# Altium footprint library chipcard-siemens.PCBLIB: 4 footprints
Each footprint in its own frame and in the unit in brackets; x right, y up, seen from the top. Pads: shape width x height; smd on the part's side, far side on the other; paste and mask are expansions set on the pad; w line width, h text height; cw(c..) or ccw(c..) is an arc to the next point about the centre after c.
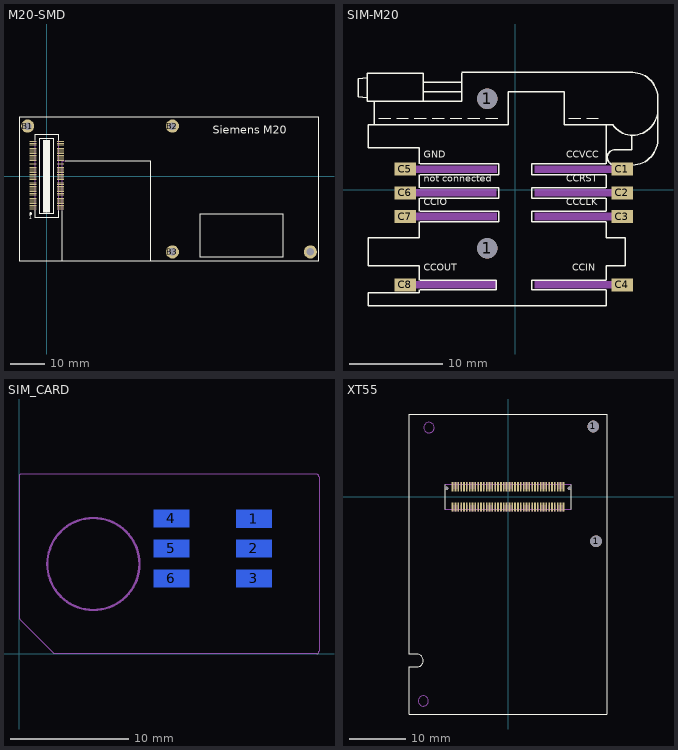
[diagram p0: the footprints below, top view; thin cyan lines are the x and y axes]

## M20-SMD [mil]
pads (84):
  rect 79x10 smd: 1(-157.48,-374.02) 2(-157.48,-354.33) 3(-157.48,-334.65) 4(-157.48,-314.96) 5(-157.48,-295.28) 6(-157.48,-275.59) 7(-157.48,-255.91) 8(-157.48,-236.22) 9(-157.48,-216.54) 10(-157.48,-196.85) 11(-157.48,-177.17) 12(-157.48,-157.48) 13(-157.48,-137.8) 14(-157.48,-118.11) 15(-157.48,-98.43) 16(-157.48,-78.74) 17(-157.48,-59.06) 18(-157.48,-39.37) 19(-157.48,-19.69) 20(-157.48,0) 21(-157.48,19.69) 22(-157.48,39.37) 23(-157.48,59.06) 24(-157.48,78.74) 25(-157.48,98.43) 26(-157.48,118.11) 27(-157.48,137.8) 28(-157.48,157.48) 29(-157.48,177.17) 30(-157.48,196.85) 31(-157.48,216.54) 32(-157.48,236.22) 33(-157.48,255.91) 34(-157.48,275.59) 35(-157.48,295.28) 36(-157.48,314.96) 37(-157.48,334.65) 38(-157.48,354.33) 39(-157.48,374.02) 40(-157.48,393.7) 41(157.48,393.7) 42(157.48,374.02) 43(157.48,354.33) 44(157.48,334.65) 45(157.48,314.96) 46(157.48,295.28) 47(157.48,275.59) 48(157.48,255.91) 49(157.48,236.22) 50(157.48,216.54) 51(157.48,196.85) 52(157.48,177.17) 53(157.48,157.48) 54(157.48,137.8) 55(157.48,118.11) 56(157.48,98.43) 57(157.48,78.74) 58(157.48,59.06) 59(157.48,39.37) 60(157.48,19.69) 61(157.48,0) 62(157.48,-19.69) 63(157.48,-39.37) 64(157.48,-59.06) 65(157.48,-78.74) 66(157.48,-98.43) 67(157.48,-118.11) 68(157.48,-137.8) 69(157.48,-157.48) 70(157.48,-177.17) 71(157.48,-196.85) 72(157.48,-216.54) 73(157.48,-236.22) 74(157.48,-255.91) 75(157.48,-275.59) 76(157.48,-295.28) 77(157.48,-314.96) 78(157.48,-334.65) 79(157.48,-354.33) 80(157.48,-374.02)
  round 150 hole 86: B1(-216.54,570.87) B2(1437.01,570.87) B3(1437.01,-866.14) PB4(3011.81,-866.14)
Top Overlay:
  circle w12: c-182.09,-428.15 r9.85
  rectangle: -39.37,-413.39 39.37,413.39
  lines w6: -137.8,-390 -137.8,-472.44 137.8,-472.44 137.8,-395 ; -137.8,410 -137.8,472.44 137.8,472.44 137.8,410 ; 177.17,-395 177.17,-964.57 ; 215,177.17 1181.1,177.17 1181.1,-964.57 ; 177.17,-964.57 -314.96,-964.57 -314.96,669.29 3110.24,669.29 3110.24,-964.57 1181.1,-964.57 ; 177.17,-964.57 1181.1,-964.57 ; -78.74,-433.07 78.74,-433.07 78.74,433.07 -78.74,433.07 -78.74,-433.07 ; 1751.97,-925.2 1751.97,-433.07 2696.85,-433.07 2696.85,-925.2 1751.97,-925.2
  text "Siemens M20" at 1900,450 h155
  text "1" at -201.77,-511.81 h77.5
Mechanical 16:
  lines w6: -137.8,-390 -137.8,410 ; 137.8,-395 137.8,410 ; 177.17,-395 177.17,177.17 215,177.17

## SIM-M20 [mil]
pads (10):
  round 86 hole 86: 1(-118.27,-246.06) 1(-118.27,383.86)
  rect 90x55 smd: C1(450,88) C2(450,-12) C3(450,-112) C4(450,-400) C5(-464,88) C6(-464,-12) C7(-464,-112) C8(-464,-400)
Top Overlay:
  lines w2: -575,302.76 -525,302.76 ; -500,302.76 -450,302.76 ; -425,302.76 -375,302.76 ; -350,302.76 -300,302.76 ; -275,302.76 -225,302.76 ; -200,302.76 -150,302.76 ; -125,302.76 -75,302.76 ; 225,302.76 275,302.76 ; 300,302.76 350,302.76
  lines w6: -403.7,-420 -403.7,-433.07 -620.24,-433.07 -620.24,-487.13 383.7,-487.13 383.7,-420 ; -403.7,-380 -403.7,-320.28 -620.24,-320.28 -620.24,-202.17 -403.7,-202.17 -403.7,-135 ; -403.7,-90 -403.7,-35 ; -403.7,10 -403.7,65 ; -403.7,110 -403.7,177.17 -620.24,177.17 -620.24,275.59 -594.24,275.59 ; -400,-420 -80,-420 -80,-380 -400,-380 ; -400,-135 -70,-135 -70,-90 -400,-90 ; -400,-35 -70,-35 -70,10 -400,10 ; -400,65 -70,65 -70,110 -400,110 ; -226.54,492.13 -226.54,452.76 ; -225,495 495,495 cw(c492.5,387.5) 600,390 600,335 ; 380,-420 70,-420 70,-380 380,-380 ; 380,-135 70,-135 70,-90 380,-90 ; 380,-35 70,-35 70,10 380,10 ; 380,65 70,65 70,110 380,110 ; 383.7,-380 383.7,-320.28 462.44,-320.28 462.44,-202.17 383.7,-202.17 383.7,-135 ; 383.7,-90 383.7,-35 ; 383.7,10 383.7,65 ; 383.7,110 383.7,275.59 ; 410,275 ccw(c496.18,335) 495,230 ccw(c492.5,337.5) 600,335 ; 410,275.59 383.7,275.59 ; 489.76,230 489.76,170 ; 490,170 489.76,170 ; -623.35,388.39 -662.72,393.39 -662.72,467.76 -623.35,472.76 ; -623.35,388.39 -623.35,374.02 -594.24,374.02 ; -623.35,388.39 -623.35,472.76 ; -623.35,472.76 -623.35,492.13 -387.13,492.13 -387.13,452.76 ; -594.24,275.59 -29.69,275.59 -29.69,413.39 206.54,413.39 206.54,275.59 383.7,275.59 ; -594.24,275.59 -594.24,374.02 ; -594.24,374.02 -387.13,374.02 ; -387.13,374.02 -226.54,374.02 -226.54,413.39 ; -387.13,374.02 -387.13,413.39 ; -387.13,413.39 -226.54,413.39 ; -387.13,413.39 -387.13,452.76 ; -387.13,452.76 -226.54,452.76 ; -226.54,413.39 -226.54,452.76 ; 489.76,170 420,170 ccw(c420,137.5) 420,105 495,105 ccw(c492.5,212.5) 600,210 600,335
  text "GND" at -385,125 h49.6
  text "not connected" at -385,25 h49.6
  text "CCIO" at -385,-75 h49.6
  text "CCOUT" at -385,-350 h49.6
  text "CCIN" at 240,-350 h49.6
  text "CCCLK" at 215,-75 h49.6
  text "CCRST" at 215,25 h49.6
  text "CCVCC" at 215,125 h49.6
Mechanical 16:
  rectangle: -490,-28 -79,4
  rectangle: -490,72 -78,104
  rectangle: -490,-128 -78,-96
  rectangle: -490,-416 -78,-384
  rectangle: 80,72 478,104
  rectangle: 80,-28 478,4
  rectangle: 80,-128 478,-96
  rectangle: 80,-416 478,-384

## SIM_CARD [mil]
pads (6):
  rect 118.11x59.06 smd far side: 1(783,450) 2(783,351) 3(783,251) 4(508,451) 5(508,351) 6(508,251)
Mechanical 1:
  circle w7.87: c248.03,299.21 r153.54
  lines w0: 0,122.05 0,590.55 cw(c7.87,590.55) 7.87,598.42 ; 3.94,114.17 118.11,0 992.13,0 ccw(c992.12,7.86) 999.98,7.87 1000,590.55 ccw(c992.12,590.55) 992.13,598.43 7.87,598.43
  lines w0.09: 0,122.05 ccw(c9.84,122.05) 3.94,114.17

## XT55 [mm]
pads (84):
  round 0.6 hole 0.6: 1(-10.8,1.5) 1(10.8,1.5)
  rect 0.3x1.6 smd: 1(-9.75,1.8) 2(-9.25,1.8) 3(-8.75,1.8) 4(-8.25,1.8) 5(-7.75,1.8) 6(-7.25,1.8) 7(-6.75,1.8) 8(-6.25,1.8) 9(-5.75,1.8) 10(-5.25,1.8) 11(-4.75,1.8) 12(-4.25,1.8) 13(-3.75,1.8) 14(-3.25,1.8) 15(-2.75,1.8) 16(-2.25,1.8) 17(-1.75,1.8) 18(-1.25,1.8) 19(-0.75,1.8) 20(-0.25,1.8) 21(0.25,1.8) 22(0.75,1.8) 23(1.25,1.8) 24(1.75,1.8) 25(2.25,1.8) 26(2.75,1.8) 27(3.25,1.8) 28(3.75,1.8) 29(4.25,1.8) 30(4.75,1.8) 31(5.25,1.8) 32(5.75,1.8) 33(6.25,1.8) 34(6.75,1.8) 35(7.25,1.8) 36(7.75,1.8) 37(8.25,1.8) 38(8.75,1.8) 39(9.25,1.8) 40(9.75,1.8) 41(9.75,-1.8) 42(9.25,-1.8) 43(8.75,-1.8) 44(8.25,-1.8) 45(7.75,-1.8) 46(7.25,-1.8) 47(6.75,-1.8) 48(6.25,-1.8) 49(5.75,-1.8) 50(5.25,-1.8) 51(4.75,-1.8) 52(4.25,-1.8) 53(3.75,-1.8) 54(3.25,-1.8) 55(2.75,-1.8) 56(2.25,-1.8) 57(1.75,-1.8) 58(1.25,-1.8) 59(0.75,-1.8) 60(0.25,-1.8) 61(-0.25,-1.8) 62(-0.75,-1.8) 63(-1.25,-1.8) 64(-1.75,-1.8) 65(-2.25,-1.8) 66(-2.75,-1.8) 67(-3.25,-1.8) 68(-3.75,-1.8) 69(-4.25,-1.8) 70(-4.75,-1.8) 71(-5.25,-1.8) 72(-5.75,-1.8) 73(-6.25,-1.8) 74(-6.75,-1.8) 75(-7.25,-1.8) 76(-7.75,-1.8) 77(-8.25,-1.8) 78(-8.75,-1.8) 79(-9.25,-1.8) 80(-9.75,-1.8)
  round 2.05 hole 2.05: 1(15,12.4) 1(15.5,-7.8)
Top Overlay:
  lines w0.127: -11.1,-2.15 -11.1,2.15 ; 11.1,-2.15 11.1,2.15
  lines w0.203: -17.4,-38.2 -17.4,-29.9 -15.975,-29.9 ccw(c-15.993,-28.8) -15.975,-27.7 -17.4,-27.7 -17.4,14.6 17.4,14.6 17.4,-38.2 -17.4,-38.2
Mechanical 16:
  circle w0: c-14.9,-35.9 r0.903
  circle w0: c-13.9,12.2 r0.922
  lines w0.127: -11.1,-2.15 11.1,-2.15 ; -11.1,2.15 11.1,2.15
  text "GPS Antenna" at -12,11.5 h2.2
  text "GSM Antenna" at -13.5,-35 h2.2
  text "Connector" at -13.5,-37 h2.2
  text "Connector" at -12,9.5 h2.2
Mechanical 19:
  rectangle: -9.9,-2.6 -9.6,-1.4
  rectangle: -9.4,-2.6 -9.1,-1.4
  rectangle: -8.9,-2.6 -8.6,-1.4
  rectangle: -8.4,-2.6 -8.1,-1.4
  rectangle: -7.9,-2.6 -7.6,-1.4
  rectangle: -7.4,-2.6 -7.1,-1.4
  rectangle: -6.9,-2.6 -6.6,-1.4
  rectangle: -6.4,-2.6 -6.1,-1.4
  rectangle: -5.9,-2.6 -5.6,-1.4
  rectangle: -5.4,-2.6 -5.1,-1.4
  rectangle: -4.9,-2.6 -4.6,-1.4
  rectangle: -4.4,-2.6 -4.1,-1.4
  rectangle: -3.9,-2.6 -3.6,-1.4
  rectangle: -3.4,-2.6 -3.1,-1.4
  rectangle: -2.9,-2.6 -2.6,-1.4
  rectangle: -2.4,-2.6 -2.1,-1.4
  rectangle: -1.9,-2.6 -1.6,-1.4
  rectangle: -1.4,-2.6 -1.1,-1.4
  rectangle: -0.9,-2.6 -0.6,-1.4
  rectangle: -0.4,-2.6 -0.1,-1.4
  rectangle: 0.1,-2.6 0.4,-1.4
  rectangle: 0.6,-2.6 0.9,-1.4
  rectangle: 1.1,-2.6 1.4,-1.4
  rectangle: 1.6,-2.6 1.9,-1.4
  rectangle: 2.1,-2.6 2.4,-1.4
  rectangle: 2.6,-2.6 2.9,-1.4
  rectangle: 3.1,-2.6 3.4,-1.4
  rectangle: 3.6,-2.6 3.9,-1.4
  rectangle: 4.1,-2.6 4.4,-1.4
  rectangle: 4.6,-2.6 4.9,-1.4
  rectangle: 5.1,-2.6 5.4,-1.4
  rectangle: 5.6,-2.6 5.9,-1.4
  rectangle: 6.1,-2.6 6.4,-1.4
  rectangle: 6.6,-2.6 6.9,-1.4
  rectangle: 7.1,-2.6 7.4,-1.4
  rectangle: 7.6,-2.6 7.9,-1.4
  rectangle: 8.1,-2.6 8.4,-1.4
  rectangle: 8.6,-2.6 8.9,-1.4
  rectangle: 9.1,-2.6 9.4,-1.4
  rectangle: 9.6,-2.6 9.9,-1.4
  region: 9.9,2.6 9.6,2.6 9.6,1.4 9.9,1.4
  region: 9.4,2.6 9.1,2.6 9.1,1.4 9.4,1.4
  region: 8.9,2.6 8.6,2.6 8.6,1.4 8.9,1.4
  region: 8.4,2.6 8.1,2.6 8.1,1.4 8.4,1.4
  region: 7.9,2.6 7.6,2.6 7.6,1.4 7.9,1.4
  region: 7.4,2.6 7.1,2.6 7.1,1.4 7.4,1.4
  region: 6.9,2.6 6.6,2.6 6.6,1.4 6.9,1.4
  region: 6.4,2.6 6.1,2.6 6.1,1.4 6.4,1.4
  region: 5.9,2.6 5.6,2.6 5.6,1.4 5.9,1.4
  region: 5.4,2.6 5.1,2.6 5.1,1.4 5.4,1.4
  region: 4.9,2.6 4.6,2.6 4.6,1.4 4.9,1.4
  region: 4.4,2.6 4.1,2.6 4.1,1.4 4.4,1.4
  region: 3.9,2.6 3.6,2.6 3.6,1.4 3.9,1.4
  region: 3.4,2.6 3.1,2.6 3.1,1.4 3.4,1.4
  region: 2.9,2.6 2.6,2.6 2.6,1.4 2.9,1.4
  region: 2.4,2.6 2.1,2.6 2.1,1.4 2.4,1.4
  region: 1.9,2.6 1.6,2.6 1.6,1.4 1.9,1.4
  region: 1.4,2.6 1.1,2.6 1.1,1.4 1.4,1.4
  region: 0.9,2.6 0.6,2.6 0.6,1.4 0.9,1.4
  region: 0.4,2.6 0.1,2.6 0.1,1.4 0.4,1.4
  region: -0.1,2.6 -0.4,2.6 -0.4,1.4 -0.1,1.4
  region: -0.6,2.6 -0.9,2.6 -0.9,1.4 -0.6,1.4
  region: -1.1,2.6 -1.4,2.6 -1.4,1.4 -1.1,1.4
  region: -1.6,2.6 -1.9,2.6 -1.9,1.4 -1.6,1.4
  region: -2.1,2.6 -2.4,2.6 -2.4,1.4 -2.1,1.4
  region: -2.6,2.6 -2.9,2.6 -2.9,1.4 -2.6,1.4
  region: -3.1,2.6 -3.4,2.6 -3.4,1.4 -3.1,1.4
  region: -3.6,2.6 -3.9,2.6 -3.9,1.4 -3.6,1.4
  region: -4.1,2.6 -4.4,2.6 -4.4,1.4 -4.1,1.4
  region: -4.6,2.6 -4.9,2.6 -4.9,1.4 -4.6,1.4
  region: -5.1,2.6 -5.4,2.6 -5.4,1.4 -5.1,1.4
  region: -5.6,2.6 -5.9,2.6 -5.9,1.4 -5.6,1.4
  region: -6.1,2.6 -6.4,2.6 -6.4,1.4 -6.1,1.4
  region: -6.6,2.6 -6.9,2.6 -6.9,1.4 -6.6,1.4
  region: -7.1,2.6 -7.4,2.6 -7.4,1.4 -7.1,1.4
  region: -7.6,2.6 -7.9,2.6 -7.9,1.4 -7.6,1.4
  region: -8.1,2.6 -8.4,2.6 -8.4,1.4 -8.1,1.4
  region: -8.6,2.6 -8.9,2.6 -8.9,1.4 -8.6,1.4
  region: -9.1,2.6 -9.4,2.6 -9.4,1.4 -9.1,1.4
  region: -9.6,2.6 -9.9,2.6 -9.9,1.4 -9.6,1.4